# Altium integrated library ON Semi Schottky Diodes & Schottky Rectifiers.IntLib: 755 symbols (part 3 of 17)
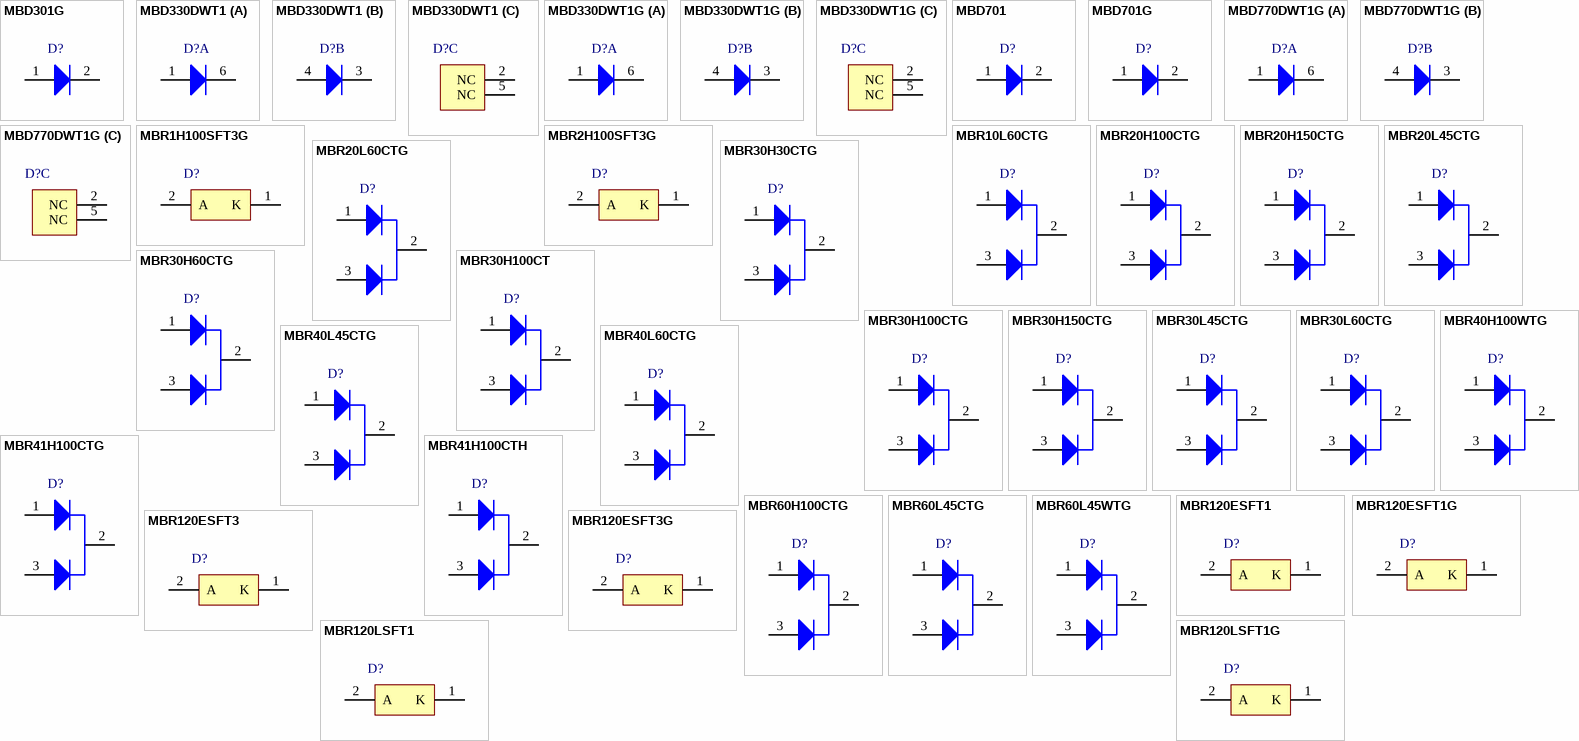
[diagram p21: symbols MBD301G to MBR120LSFT1G]

## MBR30L60CTG
designator D?
SWITCHMODE(TM) Power Rectifier, 60 V, 30 A, 3-Pin TO-220, Pb-Free, Tube; Manufacturer: On Semiconductor; PartNumber: MBR30L60CTG; Configuration: Common Cathode; IFSM Max (A): 240; DatasheetVersion: Rev. 0; PackageVersion: Rev. AF; PackageReference: TO-220-3-221A-09_AF; PackageDescription: 3-Pin Flange Mount, Vertical Straight Lead, Body 9.97 x 4.445 mm, Pitch 2.54 mm; Supplier 1: Digi-Key; Supplier Part Number 1: MBR30L60CTG-ND; Supplier 2: Newark; Supplier Part Number 2: 46P8076; Supplier 3: Mouser; Supplier Part Number 3: 863-MBR30L60CTG; Packing: Tube; RoHS: TRUE; Mounting Technology: Through Hole; ComponentLink1Description: Manufacturer URL; ComponentLink1URL: http://www.onsemi.com/; ComponentLink2Description: Datasheet; ComponentLink2URL: http://www.onsemi.cn/pub_link/Collateral/MBR30L60CT-D.PDF; ComponentLink3Description: Package Specification; ComponentLink3URL: http://www.onsemi.cn/pub_link/Collateral/MCR8S-D.PDF
footprint ONSC-TO-220-3-221A-09_AF (FM, 3-Leads, Body 10.3x4.85mm, Pitch 2.54mm)
pins: 1 A1, 2 K, 3 A2

## MBR40H100WTG
designator D?
SWITCHMODE(TM) Power Rectifier, 100 V, 40 A, 3-Pin TO-247, Pb-Free, Tube; Manufacturer: On Semiconductor; PartNumber: MBR40H100WTG; Configuration: Common Cathode; IFSM Max (A): 200; DatasheetVersion: Rev. 4; PackageVersion: Rev. F, 10/2011; PackageReference: TO-247-3-340L-02; PackageDescription: 3-Pin Flange Mount, Vertical Straight Lead, Body 16.005 x 5 mm, Pitch 5.45 mm; Supplier 1: Digi-Key; Supplier Part Number 1: MBR40H100WTGOS-ND; Supplier 2: Newark; Supplier Part Number 2: 83K8567; Supplier 3: Mouser; Supplier Part Number 3: 863-MBR40H100WTG; Packing: Tube; RoHS: TRUE; Mounting Technology: Through Hole; ComponentLink1Description: Manufacturer URL; ComponentLink1URL: http://www.onsemi.com/; ComponentLink2Description: Datasheet; ComponentLink2URL: http://www.onsemi.cn/pub_link/Collateral/MBR40H100WT-D.PDF; ComponentLink3Description: Package Specification; ComponentLink3URL: http://www.onsemi.cn/pub_link/Collateral/340L-02.PDF
footprint ONSC-TO-247-3-340L-02 (FM, 3-Leads, Body 16.3x5.3mm, Pitch 5.45mm)
pins: 1 A1, 2 K, 3 A2

## MBR40L45CTG
designator D?
SWITCHMODE(TM) Power Rectifier, 45 V, 40 A, 3-Pin TO-220, Pb-Free, Tube; Manufacturer: On Semiconductor; PartNumber: MBR40L45CTG; Configuration: Common Cathode; IFSM Max (A): 200; DatasheetVersion: Rev. 2; PackageVersion: Rev. AF; PackageReference: TO-220-3-221A-09_AF; PackageDescription: 3-Pin Flange Mount, Vertical Straight Lead, Body 9.97 x 4.445 mm, Pitch 2.54 mm; Supplier 1: Digi-Key; Supplier Part Number 1: MBR40L45CTGOS-ND; Supplier 2: Newark; Supplier Part Number 2: 50M2086; Supplier 3: Mouser; Supplier Part Number 3: 863-MBR40L45CTG; Packing: Tube; RoHS: TRUE; Mounting Technology: Through Hole; ComponentLink1Description: Manufacturer URL; ComponentLink1URL: http://www.onsemi.com/; ComponentLink2Description: Datasheet; ComponentLink2URL: http://www.onsemi.cn/pub_link/Collateral/MBR40L45CTG-D.PDF; ComponentLink3Description: Package Specification; ComponentLink3URL: http://www.onsemi.cn/pub_link/Collateral/MCR8S-D.PDF
footprint ONSC-TO-220-3-221A-09_AF (FM, 3-Leads, Body 10.3x4.85mm, Pitch 2.54mm)
pins: 1 A1, 2 K, 3 A2

## MBR40L60CTG
designator D?
SWITCHMODE(TM) Power Rectifier, 60 V, 40 A, 3-Pin TO-220, Pb-Free, Tube; Manufacturer: On Semiconductor; PartNumber: MBR40L60CTG; Configuration: Common Cathode; IFSM Max (A): 240; DatasheetVersion: Rev. 0; PackageVersion: Rev. AF; PackageReference: TO-220-3-221A-09_AF; PackageDescription: 3-Pin Flange Mount, Vertical Straight Lead, Body 9.97 x 4.445 mm, Pitch 2.54 mm; Supplier 1: Digi-Key; Supplier Part Number 1: MBR40L60CTGOS-ND; Supplier 2: Newark; Supplier Part Number 2: 46P8077; Supplier 3: Mouser; Supplier Part Number 3: 863-MBR40L60CTG; Packing: Tube; RoHS: TRUE; Mounting Technology: Through Hole; ComponentLink1Description: Manufacturer URL; ComponentLink1URL: http://www.onsemi.com/; ComponentLink2Description: Datasheet; ComponentLink2URL: http://www.onsemi.cn/pub_link/Collateral/MBR40L60CT-D.PDF; ComponentLink3Description: Package Specification; ComponentLink3URL: http://www.onsemi.cn/pub_link/Collateral/MCR8S-D.PDF
footprint ONSC-TO-220-3-221A-09_AF (FM, 3-Leads, Body 10.3x4.85mm, Pitch 2.54mm)
pins: 1 A1, 2 K, 3 A2

## MBR41H100CTG
designator D?
SWITCHMODE(TM) Power Rectifier, 100 V, 40 A, 3-Pin TO-220, Pb-Free, Tube; Manufacturer: On Semiconductor; PartNumber: MBR41H100CTG; Configuration: Common Cathode; IFSM Max (A): 350; DatasheetVersion: Rev. 8; PackageVersion: Rev. AG, 09/2011; PackageReference: TO-220-3-221A-09; PackageDescription: 3-Pin Flange Mount, Vertical Straight Lead, Body 9.97 x 4.445 mm, Pitch 2.54 mm; Supplier 1: Digi-Key; Supplier Part Number 1: MBR41H100CTGOS-ND; Supplier 2: Farnell; Supplier Part Number 2: 1431070; Supplier 3: Newark; Supplier Part Number 3: 58M8810; Supplier 4: Newark; Supplier Part Number 4: 61K0801; Supplier 5: Mouser; Supplier Part Number 5: 863-MBR41H100CTG; Packing: Tube; RoHS: TRUE; Mounting Technology: Through Hole; ComponentLink1Description: Manufacturer URL; ComponentLink1URL: http://www.onsemi.com/; ComponentLink2Description: Datasheet; ComponentLink2URL: http://www.onsemi.cn/pub_link/Collateral/MBR41H100CT-D.PDF; ComponentLink3Description: Package Specification; ComponentLink3URL: http://www.onsemi.com/pub_link/Collateral/221A-09.PDF
footprint ONSC-TO-220-3-221A-09 (FM, 3-Leads, Body 10.3x4.85mm, Pitch 2.54mm)
pins: 1 A1, 2 K, 3 A2

## MBR41H100CTH
designator D?
SWITCHMODE(TM) Power Rectifier, 100 V, 40 A, 3-Pin TO-220, Pb-Free, Tube; Manufacturer: On Semiconductor; PartNumber: MBR41H100CTH; Configuration: Common Cathode; IFSM Max (A): 350; DatasheetVersion: Rev. 8; PackageVersion: Rev. AG, 09/2011; PackageReference: TO-220-3-221A-09; PackageDescription: 3-Pin Flange Mount, Vertical Straight Lead, Body 9.97 x 4.445 mm, Pitch 2.54 mm; Supplier 1: Mouser; Supplier Part Number 1: N/A; Packing: Tube; RoHS: TRUE; Mounting Technology: Through Hole; ComponentLink1Description: Manufacturer URL; ComponentLink1URL: http://www.onsemi.com/; ComponentLink2Description: Datasheet; ComponentLink2URL: http://www.onsemi.cn/pub_link/Collateral/MBR41H100CT-D.PDF; ComponentLink3Description: Package Specification; ComponentLink3URL: http://www.onsemi.com/pub_link/Collateral/221A-09.PDF
footprint ONSC-TO-220-3-221A-09 (FM, 3-Leads, Body 10.3x4.85mm, Pitch 2.54mm)
pins: 1 A1, 2 K, 3 A2

## MBR60H100CTG
designator D?
SWITCHMODE(TM) Power Rectifier, 100 V, 60 A, 3-Pin TO-220, Pb-Free, Tube; Manufacturer: On Semiconductor; PartNumber: MBR60H100CTG; Configuration: Common Cathode; IFSM Max (A): 350; DatasheetVersion: Rev. 5; PackageVersion: Rev. AF; PackageReference: TO-220-3-221A-09_AF; PackageDescription: 3-Pin Flange Mount, Vertical Straight Lead, Body 9.97 x 4.445 mm, Pitch 2.54 mm; Supplier 1: Digi-Key; Supplier Part Number 1: MBR60H100CTGOS-ND; Supplier 2: Farnell; Supplier Part Number 2: 1431072; Supplier 3: Newark; Supplier Part Number 3: 61K0803; Supplier 4: Mouser; Supplier Part Number 4: 863-MBR60H100CTG; Packing: Tube; RoHS: TRUE; Mounting Technology: Through Hole; ComponentLink1Description: Manufacturer URL; ComponentLink1URL: http://www.onsemi.com/; ComponentLink2Description: Datasheet; ComponentLink2URL: http://www.onsemi.cn/pub_link/Collateral/MBR60H100CT-D.PDF; ComponentLink3Description: Package Specification; ComponentLink3URL: http://www.onsemi.cn/pub_link/Collateral/MCR8S-D.PDF
footprint ONSC-TO-220-3-221A-09_AF (FM, 3-Leads, Body 10.3x4.85mm, Pitch 2.54mm)
pins: 1 A1, 2 K, 3 A2

## MBR60L45CTG
designator D?
SWITCHMODE(TM) Power Rectifier, 45 V, 60 A, 3-Pin TO-220, Pb-Free, Tube; Manufacturer: On Semiconductor; PartNumber: MBR60L45CTG; Configuration: Common Cathode; IFSM Max (A): 200; DatasheetVersion: Rev. 2; PackageVersion: Rev. AF; PackageReference: TO-220-3-221A-09_AF; PackageDescription: 3-Pin Flange Mount, Vertical Straight Lead, Body 9.97 x 4.445 mm, Pitch 2.54 mm; Supplier 1: Digi-Key; Supplier Part Number 1: MBR60L45CTGOS-ND; Supplier 2: Newark; Supplier Part Number 2: 34M7324; Supplier 3: Mouser; Supplier Part Number 3: 863-MBR60L45CTG; Packing: Tube; RoHS: TRUE; Mounting Technology: Through Hole; ComponentLink1Description: Manufacturer URL; ComponentLink1URL: http://www.onsemi.com/; ComponentLink2Description: Datasheet; ComponentLink2URL: http://www.onsemi.cn/pub_link/Collateral/MBR60L45.PDF; ComponentLink3Description: Package Specification; ComponentLink3URL: http://www.onsemi.cn/pub_link/Collateral/MCR8S-D.PDF
footprint ONSC-TO-220-3-221A-09_AF (FM, 3-Leads, Body 10.3x4.85mm, Pitch 2.54mm)
pins: 1 A1, 2 K, 3 A2

## MBR60L45WTG
designator D?
SWITCHMODE(TM) Power Rectifier, 45 V, 60 A, 3-Pin TO-247, Pb-Free, Tube; Manufacturer: On Semiconductor; PartNumber: MBR60L45WTG; Configuration: Common Cathode; IFSM Max (A): 200; DatasheetVersion: Rev. 2; PackageVersion: Rev. F, 10/2011; PackageReference: TO-247-3-340L-02; PackageDescription: 3-Pin Flange Mount, Vertical Straight Lead, Body 16.005 x 5 mm, Pitch 5.45 mm; Supplier 1: Digi-Key; Supplier Part Number 1: MBR60L45WTG-ND; Supplier 2: Mouser; Supplier Part Number 2: 863-MBR60L45WTG; Packing: Tube; RoHS: TRUE; Mounting Technology: Through Hole; ComponentLink1Description: Manufacturer URL; ComponentLink1URL: http://www.onsemi.com/; ComponentLink2Description: Datasheet; ComponentLink2URL: http://www.onsemi.cn/pub_link/Collateral/MBR60L45.PDF; ComponentLink3Description: Package Specification; ComponentLink3URL: http://www.onsemi.cn/pub_link/Collateral/340L-02.PDF
footprint ONSC-TO-247-3-340L-02 (FM, 3-Leads, Body 16.3x5.3mm, Pitch 5.45mm)
pins: 1 A1, 2 K, 3 A2

## MBR120ESFT1
designator D?
Schottky Power Rectifier, 2-Pin SOD-123, Tape and Reel; Manufacturer: On Semiconductor; PartNumber: MBR120ESFT1; Configuration: Single; IFSM Max (A): 40; DatasheetVersion: Rev. 4; PackageVersion: Rev. D, 05/2013; PackageReference: SOD-123FL-2-498; PackageDescription: 2-Pin SOD, Body 1.65 x 2.7 mm; Supplier 1: Mouser; Supplier Part Number 1: 863-MBR120ESFT1; Packing: Tape and Reel; RoHS: FALSE; Mounting Technology: Surface Mount; ComponentLink1Description: Manufacturer URL; ComponentLink1URL: http://www.onsemi.com/; ComponentLink2Description: Datasheet; ComponentLink2URL: http://www.onsemi.cn/pub_link/Collateral/MBR120ESFT1-D.PDF; ComponentLink3Description: Package Specification; ComponentLink3URL: http://www.onsemi.com/pub_link/Collateral/498-01.PDF
footprint ONSC-SOD-123FL-2-498_V (SOD, 2-Leads, Body 2.7x1.65mm)
pins: 1 K, 2 A

## MBR120ESFT1G
designator D?
Schottky Power Rectifier, 2-Pin SOD-123, Pb-Free, Tape and Reel; Manufacturer: On Semiconductor; PartNumber: MBR120ESFT1G; Configuration: Single; IFSM Max (A): 40; DatasheetVersion: Rev. 4; PackageVersion: Rev. D, 05/2013; PackageReference: SOD-123FL-2-498; PackageDescription: 2-Pin SOD, Body 1.65 x 2.7 mm; Supplier 1: Farnell; Supplier Part Number 1: 1431041RL; Supplier 2: Farnell; Supplier Part Number 2: 1431041; Supplier 3: Newark; Supplier Part Number 3: 58M8776; Supplier 4: Newark; Supplier Part Number 4: 41K9997; Supplier 5: Mouser; Supplier Part Number 5: 863-MBR120ESFT1G; Packing: Tape and Reel; RoHS: TRUE; Mounting Technology: Surface Mount; ComponentLink1Description: Manufacturer URL; ComponentLink1URL: http://www.onsemi.com/; ComponentLink2Description: Datasheet; ComponentLink2URL: http://www.onsemi.cn/pub_link/Collateral/MBR120ESFT1-D.PDF; ComponentLink3Description: Package Specification; ComponentLink3URL: http://www.onsemi.com/pub_link/Collateral/498-01.PDF
footprint ONSC-SOD-123FL-2-498_V (SOD, 2-Leads, Body 2.7x1.65mm)
pins: 1 K, 2 A

## MBR120ESFT3
designator D?
Schottky Power Rectifier, 2-Pin SOD-123, Tape and Reel; Manufacturer: On Semiconductor; PartNumber: MBR120ESFT3; Configuration: Single; IFSM Max (A): 40; DatasheetVersion: Rev. 4; PackageVersion: Rev. D, 05/2013; PackageReference: SOD-123FL-2-498; PackageDescription: 2-Pin SOD, Body 1.65 x 2.7 mm; Supplier 1: Mouser; Supplier Part Number 1: 863-MBR120ESFT3; Packing: Tape and Reel; RoHS: FALSE; Mounting Technology: Surface Mount; ComponentLink1Description: Manufacturer URL; ComponentLink1URL: http://www.onsemi.com/; ComponentLink2Description: Datasheet; ComponentLink2URL: http://www.onsemi.cn/pub_link/Collateral/MBR120ESFT1-D.PDF; ComponentLink3Description: Package Specification; ComponentLink3URL: http://www.onsemi.com/pub_link/Collateral/498-01.PDF
footprint ONSC-SOD-123FL-2-498_V (SOD, 2-Leads, Body 2.7x1.65mm)
pins: 1 K, 2 A

## MBR120ESFT3G
designator D?
Schottky Power Rectifier, 2-Pin SOD-123, Pb-Free, Tape and Reel; Manufacturer: On Semiconductor; PartNumber: MBR120ESFT3G; Configuration: Single; IFSM Max (A): 40; DatasheetVersion: Rev. 4; PackageVersion: Rev. D, 05/2013; PackageReference: SOD-123FL-2-498; PackageDescription: 2-Pin SOD, Body 1.65 x 2.7 mm; Supplier 1: Digi-Key; Supplier Part Number 1: MBR120ESFT3G-ND; Supplier 2: Newark; Supplier Part Number 2: 41K9998; Supplier 3: Mouser; Supplier Part Number 3: 863-MBR120ESFT3G; Packing: Tape and Reel; RoHS: TRUE; Mounting Technology: Surface Mount; ComponentLink1Description: Manufacturer URL; ComponentLink1URL: http://www.onsemi.com/; ComponentLink2Description: Datasheet; ComponentLink2URL: http://www.onsemi.cn/pub_link/Collateral/MBR120ESFT1-D.PDF; ComponentLink3Description: Package Specification; ComponentLink3URL: http://www.onsemi.com/pub_link/Collateral/498-01.PDF
footprint ONSC-SOD-123FL-2-498_V (SOD, 2-Leads, Body 2.7x1.65mm)
pins: 1 K, 2 A

## MBR120LSFT1
designator D?
Schottky Power Rectifier, 2-Pin SOD-123, Tape and Reel; Manufacturer: On Semiconductor; PartNumber: MBR120LSFT1; Configuration: Single; IFSM Max (A): 50; DatasheetVersion: Rev. 3; PackageVersion: Rev. A; PackageReference: SOD-123FL-2-498-01; PackageDescription: 2-Pin SOD, Body 1.65 x 2.7 mm; Supplier 1: Digi-Key; Supplier Part Number 1: MBR120LSFT1OS-ND; Supplier 2: Mouser; Supplier Part Number 2: 863-MBR120LSFT1; Packing: Tape and Reel; RoHS: FALSE; Mounting Technology: Surface Mount; ComponentLink1Description: Manufacturer URL; ComponentLink1URL: http://www.onsemi.com/; ComponentLink2Description: Datasheet; ComponentLink2URL: http://www.onsemi.cn/pub_link/Collateral/MBR120LSFT1-D.PDF; ComponentLink3Description: Package Specification; ComponentLink3URL: http://www.onsemi.cn/pub_link/Collateral/MBR120VLSFT1-D.PDF
footprint ONSC-SOD-123FL-2-498-01_V (SOD, 2-Leads, Body 2.7x1.65mm)
pins: 1 K, 2 A

## MBR120LSFT1G
designator D?
Schottky Power Rectifier, 2-Pin SOD-123, Pb-Free, Tape and Reel; Manufacturer: On Semiconductor; PartNumber: MBR120LSFT1G; Configuration: Single; IFSM Max (A): 50; DatasheetVersion: Rev. 3; PackageVersion: Rev. A; PackageReference: SOD-123FL-2-498-01; PackageDescription: 2-Pin SOD, Body 1.65 x 2.7 mm; Supplier 1: Digi-Key; Supplier Part Number 1: MBR120LSFT1GOSTR-ND; Supplier 2: Digi-Key; Supplier Part Number 2: MBR120LSFT1GOSCT-ND; Supplier 3: Digi-Key; Supplier Part Number 3: MBR120LSFT1GOSDKR-ND; Supplier 4: Farnell; Supplier Part Number 4: 1431042; Supplier 5: Farnell; Supplier Part Number 5: 1431042RL; Supplier 6: Farnell; Supplier Part Number 6: 2369344; Supplier 7: Newark; Supplier Part Number 7: 10N9423; Supplier 8: Newark; Supplier Part Number 8: 41K9999; Supplier 9: Mouser; Supplier Part Number 9: 863-MBR120LSFT1G; Packing: Tape and Reel; RoHS: TRUE; Mounting Technology: Surface Mount; ComponentLink1Description: Manufacturer URL; ComponentLink1URL: http://www.onsemi.com/; ComponentLink2Description: Datasheet; ComponentLink2URL: http://www.onsemi.cn/pub_link/Collateral/MBR120LSFT1-D.PDF; ComponentLink3Description: Package Specification; ComponentLink3URL: http://www.onsemi.cn/pub_link/Collateral/MBR120VLSFT1-D.PDF
footprint ONSC-SOD-123FL-2-498-01_V (SOD, 2-Leads, Body 2.7x1.65mm)
pins: 1 K, 2 A

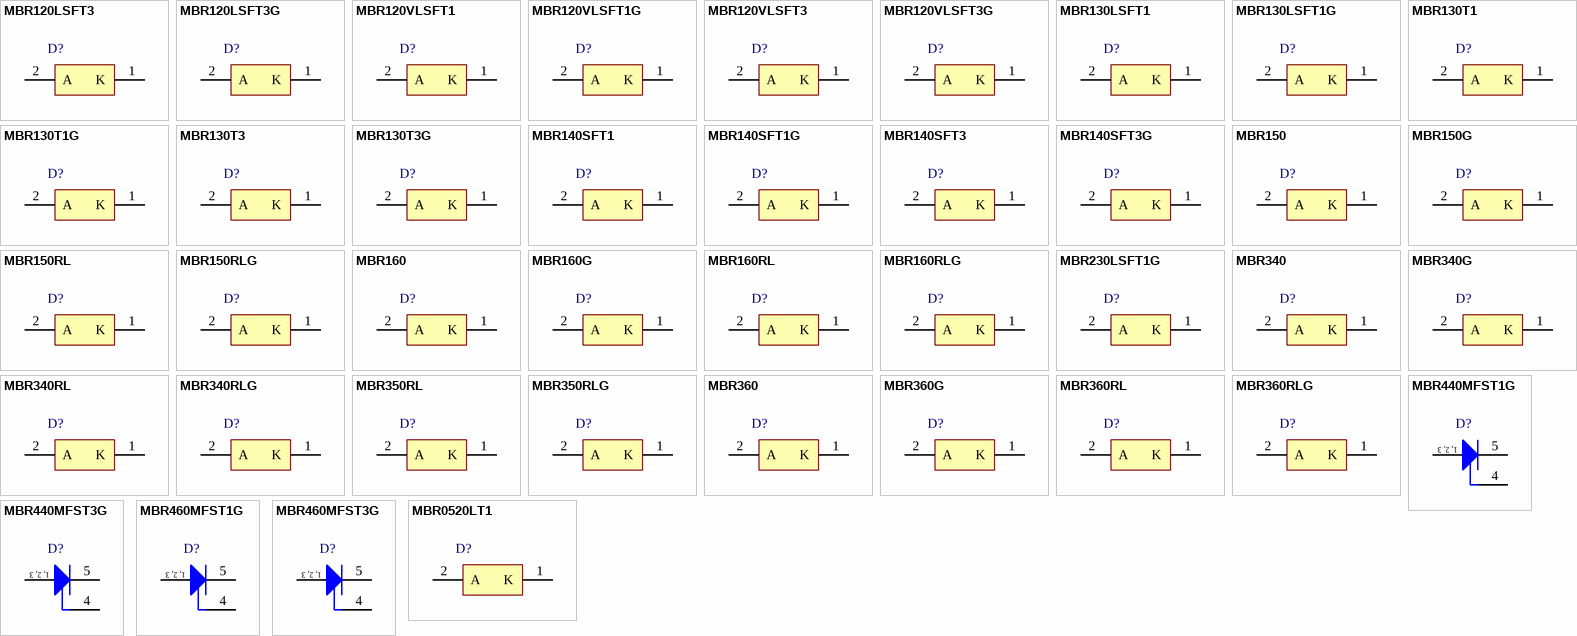
[diagram p3: symbols MBR120LSFT3 to MBR0520LT1]

## MBR120LSFT3
designator D?
Schottky Power Rectifier, 2-Pin SOD-123, Tape and Reel; Manufacturer: On Semiconductor; PartNumber: MBR120LSFT3; Configuration: Single; IFSM Max (A): 50; DatasheetVersion: Rev. 3; PackageVersion: Rev. A; PackageReference: SOD-123FL-2-498-01; PackageDescription: 2-Pin SOD, Body 1.65 x 2.7 mm; Supplier 1: Digi-Key; Supplier Part Number 1: MBR120LSFT3-ND; Supplier 2: Mouser; Supplier Part Number 2: 863-MBR120LSFT3; Packing: Tape and Reel; RoHS: FALSE; Mounting Technology: Surface Mount; ComponentLink1Description: Manufacturer URL; ComponentLink1URL: http://www.onsemi.com/; ComponentLink2Description: Datasheet; ComponentLink2URL: http://www.onsemi.cn/pub_link/Collateral/MBR120LSFT1-D.PDF; ComponentLink3Description: Package Specification; ComponentLink3URL: http://www.onsemi.cn/pub_link/Collateral/MBR120VLSFT1-D.PDF
footprint ONSC-SOD-123FL-2-498-01_V (SOD, 2-Leads, Body 2.7x1.65mm)
pins: 1 K, 2 A

## MBR120LSFT3G
designator D?
Schottky Power Rectifier, 2-Pin SOD-123, Pb-Free, Tape and Reel; Manufacturer: On Semiconductor; PartNumber: MBR120LSFT3G; Configuration: Single; IFSM Max (A): 50; DatasheetVersion: Rev. 3; PackageVersion: Rev. A; PackageReference: SOD-123FL-2-498-01; PackageDescription: 2-Pin SOD, Body 1.65 x 2.7 mm; Supplier 1: Digi-Key; Supplier Part Number 1: MBR120LSFT3G-ND; Supplier 2: Mouser; Supplier Part Number 2: 863-MBR120LSFT3G; Packing: Tape and Reel; RoHS: TRUE; Mounting Technology: Surface Mount; ComponentLink1Description: Manufacturer URL; ComponentLink1URL: http://www.onsemi.com/; ComponentLink2Description: Datasheet; ComponentLink2URL: http://www.onsemi.cn/pub_link/Collateral/MBR120LSFT1-D.PDF; ComponentLink3Description: Package Specification; ComponentLink3URL: http://www.onsemi.cn/pub_link/Collateral/MBR120VLSFT1-D.PDF
footprint ONSC-SOD-123FL-2-498-01_V (SOD, 2-Leads, Body 2.7x1.65mm)
pins: 1 K, 2 A

## MBR120VLSFT1
designator D?
Schottky Power Rectifier, 2-Pin SOD-123, Tape and Reel; Manufacturer: On Semiconductor; PartNumber: MBR120VLSFT1; Configuration: Single; IFSM Max (A): 45; DatasheetVersion: Rev. 2; PackageVersion: Rev. A; PackageReference: SOD-123FL-2-498-01; PackageDescription: 2-Pin SOD, Body 1.65 x 2.7 mm; Supplier 1: Digi-Key; Supplier Part Number 1: MBR120VLSFT1OSTR-ND; Supplier 2: Digi-Key; Supplier Part Number 2: MBR120VLSFT1OSCT-ND; Supplier 3: Mouser; Supplier Part Number 3: 863-MBR120VLSFT1; Packing: Tape and Reel; RoHS: FALSE; Mounting Technology: Surface Mount; ComponentLink1Description: Manufacturer URL; ComponentLink1URL: http://www.onsemi.com/; ComponentLink2Description: Datasheet; ComponentLink2URL: http://www.onsemi.cn/pub_link/Collateral/MBR120VLSFT1-D.PDF; ComponentLink3Description: Package Specification; ComponentLink3URL: http://www.onsemi.cn/pub_link/Collateral/MBR120VLSFT1-D.PDF
footprint ONSC-SOD-123FL-2-498-01_V (SOD, 2-Leads, Body 2.7x1.65mm)
pins: 1 K, 2 A

## MBR120VLSFT1G
designator D?
Schottky Power Rectifier, 2-Pin SOD-123, Pb-Free, Tape and Reel; Manufacturer: On Semiconductor; PartNumber: MBR120VLSFT1G; Configuration: Single; IFSM Max (A): 45; DatasheetVersion: Rev. 2; PackageVersion: Rev. A; PackageReference: SOD-123FL-2-498-01; PackageDescription: 2-Pin SOD, Body 1.65 x 2.7 mm; Supplier 1: Digi-Key; Supplier Part Number 1: MBR120VLSFT1GOSTR-ND; Supplier 2: Digi-Key; Supplier Part Number 2: MBR120VLSFT1GOSCT-ND; Supplier 3: Digi-Key; Supplier Part Number 3: MBR120VLSFT1GOSDKR-ND; Supplier 4: Farnell; Supplier Part Number 4: 1431044RL; Supplier 5: Farnell; Supplier Part Number 5: 1431044; Supplier 6: Newark; Supplier Part Number 6: 10N9424; Supplier 7: Newark; Supplier Part Number 7: 40K2436; Supplier 8: Newark; Supplier Part Number 8: 58M8778; Supplier 9: Mouser; Supplier Part Number 9: 863-MBR120VLSFT1G; Packing: Tape and Reel; RoHS: TRUE; Mounting Technology: Surface Mount; ComponentLink1Description: Manufacturer URL; ComponentLink1URL: http://www.onsemi.com/; ComponentLink2Description: Datasheet; ComponentLink2URL: http://www.onsemi.cn/pub_link/Collateral/MBR120VLSFT1-D.PDF; ComponentLink3Description: Package Specification; ComponentLink3URL: http://www.onsemi.cn/pub_link/Collateral/MBR120VLSFT1-D.PDF
footprint ONSC-SOD-123FL-2-498-01_V (SOD, 2-Leads, Body 2.7x1.65mm)
pins: 1 K, 2 A

## MBR120VLSFT3
designator D?
Schottky Power Rectifier, 2-Pin SOD-123, Tape and Reel; Manufacturer: On Semiconductor; PartNumber: MBR120VLSFT3; Configuration: Single; IFSM Max (A): 45; DatasheetVersion: Rev. 2; PackageVersion: Rev. A; PackageReference: SOD-123FL-2-498-01; PackageDescription: 2-Pin SOD, Body 1.65 x 2.7 mm; Supplier 1: Digi-Key; Supplier Part Number 1: MBR120VLSFT3-ND; Supplier 2: Mouser; Supplier Part Number 2: 863-MBR120VLSFT3; Packing: Tape and Reel; RoHS: FALSE; Mounting Technology: Surface Mount; ComponentLink1Description: Manufacturer URL; ComponentLink1URL: http://www.onsemi.com/; ComponentLink2Description: Datasheet; ComponentLink2URL: http://www.onsemi.cn/pub_link/Collateral/MBR120VLSFT1-D.PDF; ComponentLink3Description: Package Specification; ComponentLink3URL: http://www.onsemi.cn/pub_link/Collateral/MBR120VLSFT1-D.PDF
footprint ONSC-SOD-123FL-2-498-01_V (SOD, 2-Leads, Body 2.7x1.65mm)
pins: 1 K, 2 A

## MBR120VLSFT3G
designator D?
Schottky Power Rectifier, 2-Pin SOD-123, Pb-Free, Tape and Reel; Manufacturer: On Semiconductor; PartNumber: MBR120VLSFT3G; Configuration: Single; IFSM Max (A): 45; DatasheetVersion: Rev. 2; PackageVersion: Rev. A; PackageReference: SOD-123FL-2-498-01; PackageDescription: 2-Pin SOD, Body 1.65 x 2.7 mm; Supplier 1: Digi-Key; Supplier Part Number 1: MBR120VLSFT3GOSTR-ND; Supplier 2: Digi-Key; Supplier Part Number 2: MBR120VLSFT3GOSCT-ND; Supplier 3: Digi-Key; Supplier Part Number 3: MBR120VLSFT3GOSDKR-ND; Supplier 4: Newark; Supplier Part Number 4: 42K0002; Supplier 5: Mouser; Supplier Part Number 5: 863-MBR120VLSFT3G; Packing: Tape and Reel; RoHS: TRUE; Mounting Technology: Surface Mount; ComponentLink1Description: Manufacturer URL; ComponentLink1URL: http://www.onsemi.com/; ComponentLink2Description: Datasheet; ComponentLink2URL: http://www.onsemi.cn/pub_link/Collateral/MBR120VLSFT1-D.PDF; ComponentLink3Description: Package Specification; ComponentLink3URL: http://www.onsemi.cn/pub_link/Collateral/MBR120VLSFT1-D.PDF
footprint ONSC-SOD-123FL-2-498-01_V (SOD, 2-Leads, Body 2.7x1.65mm)
pins: 1 K, 2 A

## MBR130LSFT1
designator D?
Schottky Power Rectifier, 2-Pin SOD-123, Tape and Reel; Manufacturer: On Semiconductor; PartNumber: MBR130LSFT1; Configuration: Single; IFSM Max (A): 40; DatasheetVersion: Rev. 3; PackageVersion: Rev. D, 05/2013; PackageReference: SOD-123FL-2-498; PackageDescription: 2-Pin SMD, Body 2.7 x 1.65 mm, Pitch 2.95 mm; Supplier 1: Digi-Key; Supplier Part Number 1: MBR130LSFT1-ND; Supplier 2: Mouser; Supplier Part Number 2: 863-MBR130LSFT1; Packing: Tape and Reel; RoHS: FALSE; Mounting Technology: Surface Mount; ComponentLink1Description: Manufacturer URL; ComponentLink1URL: http://www.onsemi.com/; ComponentLink2Description: Datasheet; ComponentLink2URL: http://www.onsemi.cn/pub_link/Collateral/MBR130LSFT1-D.PDF; ComponentLink3Description: Package Specification; ComponentLink3URL: http://www.onsemi.com/pub_link/Collateral/498-01.PDF
footprint ONSC-SOD-123FL-2-498_V (SOD, 2-Leads, Body 2.7x1.65mm)
pins: 1 K, 2 A

## MBR130LSFT1G
designator D?
Schottky Power Rectifier, 2-Pin SOD-123, Pb-Free, Tape and Reel; Manufacturer: On Semiconductor; PartNumber: MBR130LSFT1G; Configuration: Single; IFSM Max (A): 40; DatasheetVersion: Rev. 3; PackageVersion: Rev. D, 05/2013; PackageReference: SOD-123FL-2-498; PackageDescription: 2-Pin SOD, Body 1.65 x 2.7 mm; Supplier 1: Digi-Key; Supplier Part Number 1: MBR130LSFT1GOSTR-ND; Supplier 2: Digi-Key; Supplier Part Number 2: MBR130LSFT1GOSCT-ND; Supplier 3: Digi-Key; Supplier Part Number 3: MBR130LSFT1GOSDKR-ND; Supplier 4: Farnell; Supplier Part Number 4: 1889324; Supplier 5: Newark; Supplier Part Number 5: 10N9425; Supplier 6: Newark; Supplier Part Number 6: 42K0003; Supplier 7: Mouser; Supplier Part Number 7: 863-MBR130LSFT1G; Packing: Tape and Reel; RoHS: TRUE; Mounting Technology: Surface Mount; ComponentLink1Description: Manufacturer URL; ComponentLink1URL: http://www.onsemi.com/; ComponentLink2Description: Datasheet; ComponentLink2URL: http://www.onsemi.cn/pub_link/Collateral/MBR130LSFT1-D.PDF; ComponentLink3Description: Package Specification; ComponentLink3URL: http://www.onsemi.com/pub_link/Collateral/498-01.PDF
footprint ONSC-SOD-123FL-2-498_V (SOD, 2-Leads, Body 2.7x1.65mm)
pins: 1 K, 2 A

## MBR130T1
designator D?
Schottky Power Rectifier, 2-Pin SOD-123, Tape and Reel; Manufacturer: On Semiconductor; PartNumber: MBR130T1; Configuration: Single; IFSM Max (A): 5.5; DatasheetVersion: Rev. 4; PackageVersion: Rev. G, 10/2009; PackageReference: SOD-123-2-425-04; PackageDescription: 2-Pin SOD, Body 1.6 x 2.69 mm; Supplier 1: Digi-Key; Supplier Part Number 1: MBR130T1OSCT-ND; Packing: Tape and Reel; RoHS: FALSE; Mounting Technology: Surface Mount; ComponentLink1Description: Manufacturer URL; ComponentLink1URL: http://www.onsemi.com/; ComponentLink2Description: Datasheet; ComponentLink2URL: http://www.onsemi.cn/pub_link/Collateral/MBR130T1-D.PDF; ComponentLink3Description: Package Specification; ComponentLink3URL: http://www.onsemi.com/pub_link/Collateral/425-04.PDF
footprint ONSC-SOD-123-2-425-04_V (SOD, 2-Leads, Body 2.69x1.6mm)
pins: 1 K, 2 A

## MBR130T1G
designator D?
Schottky Power Rectifier, 2-Pin SOD-123, Pb-Free, Tape and Reel; Manufacturer: On Semiconductor; PartNumber: MBR130T1G; Configuration: Single; IFSM Max (A): 5.5; DatasheetVersion: Rev. 4; PackageVersion: Rev. G, 10/2009; PackageReference: SOD-123-2-425-04; PackageDescription: 2-Pin SOD, Body 1.6 x 2.69 mm; Supplier 1: Digi-Key; Supplier Part Number 1: MBR130T1GOSTR-ND; Supplier 2: Digi-Key; Supplier Part Number 2: MBR130T1GOSCT-ND; Supplier 3: Digi-Key; Supplier Part Number 3: MBR130T1GOSDKR-ND; Supplier 4: Farnell; Supplier Part Number 4: 1431045; Supplier 5: Farnell; Supplier Part Number 5: 1431045RL; Supplier 6: Newark; Supplier Part Number 6: 98H0601; Supplier 7: Newark; Supplier Part Number 7: 84K8740; Supplier 8: Mouser; Supplier Part Number 8: 863-MBR130T1G; Packing: Tape and Reel; RoHS: TRUE; Mounting Technology: Surface Mount; ComponentLink1Description: Manufacturer URL; ComponentLink1URL: http://www.onsemi.com/; ComponentLink2Description: Datasheet; ComponentLink2URL: http://www.onsemi.cn/pub_link/Collateral/MBR130T1-D.PDF; ComponentLink3Description: Package Specification; ComponentLink3URL: http://www.onsemi.com/pub_link/Collateral/425-04.PDF
footprint ONSC-SOD-123-2-425-04_V (SOD, 2-Leads, Body 2.69x1.6mm)
pins: 1 K, 2 A

## MBR130T3
designator D?
Schottky Power Rectifier, 2-Pin SOD-123, Tape and Reel; Manufacturer: On Semiconductor; PartNumber: MBR130T3; Configuration: Single; IFSM Max (A): 5.5; DatasheetVersion: Rev. 4; PackageVersion: Rev. G, 10/2009; PackageReference: SOD-123-2-425-04; PackageDescription: 2-Pin SOD, Body 1.6 x 2.69 mm; Supplier 1: Digi-Key; Supplier Part Number 1: MBR130T3-ND; Packing: Tape and Reel; RoHS: FALSE; Mounting Technology: Surface Mount; ComponentLink1Description: Manufacturer URL; ComponentLink1URL: http://www.onsemi.com/; ComponentLink2Description: Datasheet; ComponentLink2URL: http://www.onsemi.cn/pub_link/Collateral/MBR130T1-D.PDF; ComponentLink3Description: Package Specification; ComponentLink3URL: http://www.onsemi.com/pub_link/Collateral/425-04.PDF
footprint ONSC-SOD-123-2-425-04_V (SOD, 2-Leads, Body 2.69x1.6mm)
pins: 1 K, 2 A

## MBR130T3G
designator D?
Schottky Power Rectifier, 2-Pin SOD-123, Pb-Free, Tape and Reel; Manufacturer: On Semiconductor; PartNumber: MBR130T3G; Configuration: Single; IFSM Max (A): 5.5; DatasheetVersion: Rev. 4; PackageVersion: Rev. G, 10/2009; PackageReference: SOD-123-2-425-04; PackageDescription: 2-Pin SOD, Body 1.6 x 2.69 mm; Supplier 1: Digi-Key; Supplier Part Number 1: MBR130T3GOSTR-ND; Supplier 2: Digi-Key; Supplier Part Number 2: MBR130T3GOSCT-ND; Supplier 3: Digi-Key; Supplier Part Number 3: MBR130T3GOSDKR-ND; Supplier 4: Farnell; Supplier Part Number 4: 1611423; Supplier 5: Newark; Supplier Part Number 5: 42K0004; Supplier 6: Mouser; Supplier Part Number 6: 863-MBR130T3G; Packing: Tape and Reel; RoHS: TRUE; Mounting Technology: Surface Mount; ComponentLink1Description: Manufacturer URL; ComponentLink1URL: http://www.onsemi.com/; ComponentLink2Description: Datasheet; ComponentLink2URL: http://www.onsemi.cn/pub_link/Collateral/MBR130T1-D.PDF; ComponentLink3Description: Package Specification; ComponentLink3URL: http://www.onsemi.com/pub_link/Collateral/425-04.PDF
footprint ONSC-SOD-123-2-425-04_V (SOD, 2-Leads, Body 2.69x1.6mm)
pins: 1 K, 2 A

## MBR140SFT1
designator D?
Schottky Power Rectifier, 2-Pin SOD-123, Tape and Reel; Manufacturer: On Semiconductor; PartNumber: MBR140SFT1; Configuration: Single; IFSM Max (A): 30; DatasheetVersion: Rev. 5; PackageVersion: Rev. A; PackageReference: SOD-123FL-2-498-01; PackageDescription: 2-Pin SOD, Body 1.65 x 2.7 mm; Supplier 1: Digi-Key; Supplier Part Number 1: MBR140SFT1OSTR-ND; Supplier 2: Digi-Key; Supplier Part Number 2: MBR140SFT1OSCT-ND; Supplier 3: Mouser; Supplier Part Number 3: 863-MBR140SFT1; Packing: Tape and Reel; RoHS: FALSE; Mounting Technology: Surface Mount; ComponentLink1Description: Manufacturer URL; ComponentLink1URL: http://www.onsemi.com/; ComponentLink2Description: Datasheet; ComponentLink2URL: http://www.onsemi.cn/pub_link/Collateral/MBR140SFT1-D.PDF; ComponentLink3Description: Package Specification; ComponentLink3URL: http://www.onsemi.cn/pub_link/Collateral/MBR120VLSFT1-D.PDF
footprint ONSC-SOD-123FL-2-498-01_V (SOD, 2-Leads, Body 2.7x1.65mm)
pins: 1 K, 2 A

## MBR140SFT1G
designator D?
Schottky Power Rectifier, 2-Pin SOD-123, Pb-Free, Tape and Reel; Manufacturer: On Semiconductor; PartNumber: MBR140SFT1G; Configuration: Single; IFSM Max (A): 30; DatasheetVersion: Rev. 5; PackageVersion: Rev. A; PackageReference: SOD-123FL-2-498-01; PackageDescription: 2-Pin SOD, Body 1.65 x 2.7 mm; Supplier 1: Digi-Key; Supplier Part Number 1: MBR140SFT1GOSTR-ND; Supplier 2: Digi-Key; Supplier Part Number 2: MBR140SFT1GOSCT-ND; Supplier 3: Digi-Key; Supplier Part Number 3: MBR140SFT1GOSDKR-ND; Supplier 4: Farnell; Supplier Part Number 4: 2317682; Supplier 5: Farnell; Supplier Part Number 5: 1431046RL; Supplier 6: Farnell; Supplier Part Number 6: 1431046; Supplier 7: Newark; Supplier Part Number 7: 42K0005; Supplier 8: Newark; Supplier Part Number 8: 85W2812; Supplier 9: Mouser; Supplier Part Number 9: 863-MBR140SFT1G; Packing: Tape and Reel; RoHS: TRUE; Mounting Technology: Surface Mount; ComponentLink1Description: Manufacturer URL; ComponentLink1URL: http://www.onsemi.com/; ComponentLink2Description: Datasheet; ComponentLink2URL: http://www.onsemi.cn/pub_link/Collateral/MBR140SFT1-D.PDF; ComponentLink3Description: Package Specification; ComponentLink3URL: http://www.onsemi.cn/pub_link/Collateral/MBR120VLSFT1-D.PDF
footprint ONSC-SOD-123FL-2-498-01_V (SOD, 2-Leads, Body 2.7x1.65mm)
pins: 1 K, 2 A

## MBR140SFT3
designator D?
Schottky Power Rectifier, 2-Pin SOD-123, Tape and Reel; Manufacturer: On Semiconductor; PartNumber: MBR140SFT3; Configuration: Single; IFSM Max (A): 30; DatasheetVersion: Rev. 5; PackageVersion: Rev. A; PackageReference: SOD-123FL-2-498-01; PackageDescription: 2-Pin SOD, Body 1.65 x 2.7 mm; Supplier 1: Digi-Key; Supplier Part Number 1: MBR140SFT3-ND; Supplier 2: Mouser; Supplier Part Number 2: 863-MBR140SFT3; Packing: Tape and Reel; RoHS: FALSE; Mounting Technology: Surface Mount; ComponentLink1Description: Manufacturer URL; ComponentLink1URL: http://www.onsemi.com/; ComponentLink2Description: Datasheet; ComponentLink2URL: http://www.onsemi.cn/pub_link/Collateral/MBR140SFT1-D.PDF; ComponentLink3Description: Package Specification; ComponentLink3URL: http://www.onsemi.cn/pub_link/Collateral/MBR120VLSFT1-D.PDF
footprint ONSC-SOD-123FL-2-498-01_V (SOD, 2-Leads, Body 2.7x1.65mm)
pins: 1 K, 2 A

## MBR140SFT3G
designator D?
Schottky Power Rectifier, 2-Pin SOD-123, Pb-Free, Tape and Reel; Manufacturer: On Semiconductor; PartNumber: MBR140SFT3G; Configuration: Single; IFSM Max (A): 30; DatasheetVersion: Rev. 5; PackageVersion: Rev. A; PackageReference: SOD-123FL-2-498-01; PackageDescription: 2-Pin SOD, Body 1.65 x 2.7 mm; Supplier 1: Digi-Key; Supplier Part Number 1: MBR140SFT3G-ND; Supplier 2: Newark; Supplier Part Number 2: 42K0006; Supplier 3: Mouser; Supplier Part Number 3: 863-MBR140SFT3G; Packing: Tape and Reel; RoHS: TRUE; Mounting Technology: Surface Mount; ComponentLink1Description: Manufacturer URL; ComponentLink1URL: http://www.onsemi.com/; ComponentLink2Description: Datasheet; ComponentLink2URL: http://www.onsemi.cn/pub_link/Collateral/MBR140SFT1-D.PDF; ComponentLink3Description: Package Specification; ComponentLink3URL: http://www.onsemi.cn/pub_link/Collateral/MBR120VLSFT1-D.PDF
footprint ONSC-SOD-123FL-2-498-01_V (SOD, 2-Leads, Body 2.7x1.65mm)
pins: 1 K, 2 A

## MBR150
designator D?
Rectifier, 2-Pin Axial_Lead, Pb-Free, Bulk Bag; Manufacturer: On Semiconductor; PartNumber: MBR150; Configuration: Single; IFSM Max (A): 25; DatasheetVersion: Rev. 8; PackageVersion: Rev. U, 02/2005; PackageReference: AXIAL_LEAD-2-59-10; PackageDescription: 2-Pin, Axial Lead, Diameter 2.35 mm; Supplier 1: Digi-Key; Supplier Part Number 1: MBR150OS-ND; Packing: Bulk Bag; RoHS: TRUE; Mounting Technology: Through Hole; ComponentLink1Description: Manufacturer URL; ComponentLink1URL: http://www.onsemi.com/; ComponentLink2Description: Datasheet; ComponentLink2URL: http://www.onsemi.cn/pub_link/Collateral/MBR150-D.PDF; ComponentLink3Description: Package Specification; ComponentLink3URL: http://www.onsemi.cn/pub_link/Collateral/59-10.PDF
footprint ONSC-AXIAL_LEAD-2-59-10_P (AXIAL, 2-Leads, Diameter 2.35mm)
pins: 1 K, 2 A

## MBR150G
designator D?
Rectifier, 2-Pin Axial_Lead, Pb-Free, Bulk Bag; Manufacturer: On Semiconductor; PartNumber: MBR150G; Configuration: Single; IFSM Max (A): 25; DatasheetVersion: Rev. 8; PackageVersion: Rev. U, 02/2005; PackageReference: AXIAL_LEAD-2-59-10; PackageDescription: 2-Pin, Axial Lead, Diameter 2.35 mm; Supplier 1: Digi-Key; Supplier Part Number 1: MBR150GOS-ND; Supplier 2: Farnell; Supplier Part Number 2: 1651124; Supplier 3: Newark; Supplier Part Number 3: 42K0007; Supplier 4: Mouser; Supplier Part Number 4: 863-MBR150G; Packing: Bulk Bag; RoHS: TRUE; Mounting Technology: Through Hole; ComponentLink1Description: Manufacturer URL; ComponentLink1URL: http://www.onsemi.com/; ComponentLink2Description: Datasheet; ComponentLink2URL: http://www.onsemi.cn/pub_link/Collateral/MBR150-D.PDF; ComponentLink3Description: Package Specification; ComponentLink3URL: http://www.onsemi.cn/pub_link/Collateral/59-10.PDF
footprint ONSC-AXIAL_LEAD-2-59-10_P (AXIAL, 2-Leads, Diameter 2.35mm)
pins: 1 K, 2 A

## MBR150RL
designator D?
Rectifier, 2-Pin Axial_Lead, Pb-Free, Tape and Reel; Manufacturer: On Semiconductor; PartNumber: MBR150RL; Configuration: Single; IFSM Max (A): 25; DatasheetVersion: Rev. 8; PackageVersion: Rev. U, 02/2005; PackageReference: AXIAL_LEAD-2-59-10; PackageDescription: 2-Pin, Axial Lead, Diameter 2.35 mm; Supplier 1: Digi-Key; Supplier Part Number 1: MBR150RLOSTR-ND; Supplier 2: Digi-Key; Supplier Part Number 2: MBR150RLOSCT-ND; Supplier 3: Mouser; Supplier Part Number 3: 863-MBR150RL; Packing: Tape and Reel; RoHS: TRUE; Mounting Technology: Through Hole; ComponentLink1Description: Manufacturer URL; ComponentLink1URL: http://www.onsemi.com/; ComponentLink2Description: Datasheet; ComponentLink2URL: http://www.onsemi.cn/pub_link/Collateral/MBR150-D.PDF; ComponentLink3Description: Package Specification; ComponentLink3URL: http://www.onsemi.cn/pub_link/Collateral/59-10.PDF
footprint ONSC-AXIAL_LEAD-2-59-10_P (AXIAL, 2-Leads, Diameter 2.35mm)
pins: 1 K, 2 A

## MBR150RLG
designator D?
Rectifier, 2-Pin Axial_Lead, Pb-Free, Tape and Reel; Manufacturer: On Semiconductor; PartNumber: MBR150RLG; Configuration: Single; IFSM Max (A): 25; DatasheetVersion: Rev. 8; PackageVersion: Rev. U, 02/2005; PackageReference: AXIAL_LEAD-2-59-10; PackageDescription: 2-Pin, Axial Lead, Diameter 2.35 mm; Supplier 1: Digi-Key; Supplier Part Number 1: MBR150RLGOSTR-ND; Supplier 2: Digi-Key; Supplier Part Number 2: MBR150RLGOSCT-ND; Supplier 3: Farnell; Supplier Part Number 3: 1431047; Supplier 4: Newark; Supplier Part Number 4: 42K0008; Supplier 5: Newark; Supplier Part Number 5: 10N9426; Supplier 6: Mouser; Supplier Part Number 6: 863-MBR150RLG; Packing: Tape and Reel; RoHS: TRUE; Mounting Technology: Through Hole; ComponentLink1Description: Manufacturer URL; ComponentLink1URL: http://www.onsemi.com/; ComponentLink2Description: Datasheet; ComponentLink2URL: http://www.onsemi.cn/pub_link/Collateral/MBR150-D.PDF; ComponentLink3Description: Package Specification; ComponentLink3URL: http://www.onsemi.cn/pub_link/Collateral/59-10.PDF
footprint ONSC-AXIAL_LEAD-2-59-10_P (AXIAL, 2-Leads, Diameter 2.35mm)
pins: 1 K, 2 A

## MBR160
designator D?
Rectifier, 2-Pin Axial_Lead, Pb-Free, Bulk Bag; Manufacturer: On Semiconductor; PartNumber: MBR160; Configuration: Single; IFSM Max (A): 25; DatasheetVersion: Rev. 8; PackageVersion: Rev. U, 02/2005; PackageReference: AXIAL_LEAD-2-59-10; PackageDescription: 2-Pin, Axial Lead, Diameter 2.35 mm; Supplier 1: Digi-Key; Supplier Part Number 1: MBR160OS-ND; Packing: Bulk Bag; RoHS: TRUE; Mounting Technology: Through Hole; ComponentLink1Description: Manufacturer URL; ComponentLink1URL: http://www.onsemi.com/; ComponentLink2Description: Datasheet; ComponentLink2URL: http://www.onsemi.cn/pub_link/Collateral/MBR150-D.PDF; ComponentLink3Description: Package Specification; ComponentLink3URL: http://www.onsemi.cn/pub_link/Collateral/59-10.PDF
footprint ONSC-AXIAL_LEAD-2-59-10_P (AXIAL, 2-Leads, Diameter 2.35mm)
pins: 1 K, 2 A

## MBR160G
designator D?
Rectifier, 2-Pin Axial_Lead, Pb-Free, Bulk Bag; Manufacturer: On Semiconductor; PartNumber: MBR160G; Configuration: Single; IFSM Max (A): 25; DatasheetVersion: Rev. 8; PackageVersion: Rev. U, 02/2005; PackageReference: AXIAL_LEAD-2-59-10; PackageDescription: 2-Pin, Axial Lead, Diameter 2.35 mm; Supplier 1: Digi-Key; Supplier Part Number 1: MBR160GOS-ND; Supplier 2: Farnell; Supplier Part Number 2: 1126226; Supplier 3: Newark; Supplier Part Number 3: 42K0009; Supplier 4: Mouser; Supplier Part Number 4: 863-MBR160G; Packing: Bulk Bag; RoHS: TRUE; Mounting Technology: Through Hole; ComponentLink1Description: Manufacturer URL; ComponentLink1URL: http://www.onsemi.com/; ComponentLink2Description: Datasheet; ComponentLink2URL: http://www.onsemi.cn/pub_link/Collateral/MBR150-D.PDF; ComponentLink3Description: Package Specification; ComponentLink3URL: http://www.onsemi.cn/pub_link/Collateral/59-10.PDF
footprint ONSC-AXIAL_LEAD-2-59-10_P (AXIAL, 2-Leads, Diameter 2.35mm)
pins: 1 K, 2 A

## MBR160RL
designator D?
Rectifier, 2-Pin Axial_Lead, Pb-Free, Tape and Reel; Manufacturer: On Semiconductor; PartNumber: MBR160RL; Configuration: Single; IFSM Max (A): 25; DatasheetVersion: Rev. 8; PackageVersion: Rev. U, 02/2005; PackageReference: AXIAL_LEAD-2-59-10; PackageDescription: 2-Pin, Axial Lead, Diameter 2.35 mm; Supplier 1: Digi-Key; Supplier Part Number 1: MBR160RLOSTR-ND; Supplier 2: Digi-Key; Supplier Part Number 2: MBR160RLOSCT-ND; Supplier 3: Mouser; Supplier Part Number 3: 863-MBR160RL; Packing: Tape and Reel; RoHS: TRUE; Mounting Technology: Through Hole; ComponentLink1Description: Manufacturer URL; ComponentLink1URL: http://www.onsemi.com/; ComponentLink2Description: Datasheet; ComponentLink2URL: http://www.onsemi.cn/pub_link/Collateral/MBR150-D.PDF; ComponentLink3Description: Package Specification; ComponentLink3URL: http://www.onsemi.cn/pub_link/Collateral/59-10.PDF
footprint ONSC-AXIAL_LEAD-2-59-10_P (AXIAL, 2-Leads, Diameter 2.35mm)
pins: 1 K, 2 A

## MBR160RLG
designator D?
Rectifier, 2-Pin Axial_Lead, Pb-Free, Tape and Reel; Manufacturer: On Semiconductor; PartNumber: MBR160RLG; Configuration: Single; IFSM Max (A): 25; DatasheetVersion: Rev. 8; PackageVersion: Rev. U, 02/2005; PackageReference: AXIAL_LEAD-2-59-10; PackageDescription: 2-Pin, Axial Lead, Diameter 2.35 mm; Supplier 1: Digi-Key; Supplier Part Number 1: MBR160RLGOSTR-ND; Supplier 2: Digi-Key; Supplier Part Number 2: MBR160RLGOSCT-ND; Supplier 3: Farnell; Supplier Part Number 3: 9556761; Supplier 4: Farnell; Supplier Part Number 4: 2369355; Supplier 5: Newark; Supplier Part Number 5: 10N9427; Supplier 6: Newark; Supplier Part Number 6: 42K0010; Supplier 7: Mouser; Supplier Part Number 7: 863-MBR160RLG; Packing: Tape and Reel; RoHS: TRUE; Mounting Technology: Through Hole; ComponentLink1Description: Manufacturer URL; ComponentLink1URL: http://www.onsemi.com/; ComponentLink2Description: Datasheet; ComponentLink2URL: http://www.onsemi.cn/pub_link/Collateral/MBR150-D.PDF; ComponentLink3Description: Package Specification; ComponentLink3URL: http://www.onsemi.cn/pub_link/Collateral/59-10.PDF
footprint ONSC-AXIAL_LEAD-2-59-10_P (AXIAL, 2-Leads, Diameter 2.35mm)
pins: 1 K, 2 A

## MBR230LSFT1G
designator D?
Schottky Power Rectifier, 2-Pin SOD-123, Pb-Free, Tape and Reel; Manufacturer: On Semiconductor; PartNumber: MBR230LSFT1G; Configuration: Single; IFSM Max (A): 40; DatasheetVersion: Rev. 0; PackageVersion: Rev. A; PackageReference: SOD-123FL-2-498-01; PackageDescription: 2-Pin SOD, Body 1.65 x 2.7 mm; Supplier 1: Digi-Key; Supplier Part Number 1: MBR230LSFT1GOSTR-ND; Supplier 2: Digi-Key; Supplier Part Number 2: MBR230LSFT1GOSCT-ND; Supplier 3: Digi-Key; Supplier Part Number 3: MBR230LSFT1GOSDKR-ND; Supplier 4: Farnell; Supplier Part Number 4: 2317422; Supplier 5: Farnell; Supplier Part Number 5: 1889325; Supplier 6: Newark; Supplier Part Number 6: 50M2085; Supplier 7: Newark; Supplier Part Number 7: 10N9428; Supplier 8: Mouser; Supplier Part Number 8: 863-MBR230LSFT1G; Packing: Tape and Reel; RoHS: TRUE; Mounting Technology: Surface Mount; ComponentLink1Description: Manufacturer URL; ComponentLink1URL: http://www.onsemi.com/; ComponentLink2Description: Datasheet; ComponentLink2URL: http://www.onsemi.cn/pub_link/Collateral/MBR230LSFT1G.PDF; ComponentLink3Description: Package Specification; ComponentLink3URL: http://www.onsemi.cn/pub_link/Collateral/MBR120VLSFT1-D.PDF
footprint ONSC-SOD-123FL-2-498-01_V (SOD, 2-Leads, Body 2.7x1.65mm)
pins: 1 K, 2 A

## MBR340
designator D?
Rectifier, 2-Pin Axial_Lead, Bulk Bag; Manufacturer: On Semiconductor; PartNumber: MBR340; Configuration: Single; IFSM Max (A): 80; DatasheetVersion: Rev. 7; PackageVersion: Rev. G, 06/2000; PackageReference: AXIAL_LEAD-2-267-05; PackageDescription: 2-Pin, Axial Lead, Diameter 5.05 mm; Supplier 1: Digi-Key; Supplier Part Number 1: MBR340OS-ND; Supplier 2: Mouser; Supplier Part Number 2: 863-MBR340; Packing: Bulk Bag; RoHS: FALSE; Mounting Technology: Through Hole; ComponentLink1Description: Manufacturer URL; ComponentLink1URL: http://www.onsemi.com/; ComponentLink2Description: Datasheet; ComponentLink2URL: http://www.onsemi.cn/pub_link/Collateral/MBR340-D.PDF; ComponentLink3Description: Package Specification; ComponentLink3URL: http://www.onsemi.com/pub_link/Collateral/267-05.PDF
footprint ONSC-AXIAL_LEAD-2-267-05_V (AXIAL, 2-Leads, Diameter 5.05mm)
pins: 1 K, 2 A

## MBR340G
designator D?
Rectifier, 2-Pin Axial_Lead, Pb-Free, Bulk Bag; Manufacturer: On Semiconductor; PartNumber: MBR340G; Configuration: Single; IFSM Max (A): 80; DatasheetVersion: Rev. 7; PackageVersion: Rev. G, 06/2000; PackageReference: AXIAL_LEAD-2-267-05; PackageDescription: 2-Pin, Axial Lead, Diameter 5.05 mm; Supplier 1: Digi-Key; Supplier Part Number 1: MBR340GOS-ND; Supplier 2: Farnell; Supplier Part Number 2: 1459059; Supplier 3: Newark; Supplier Part Number 3: 42K0014; Supplier 4: Newark; Supplier Part Number 4: 58M8802; Supplier 5: Mouser; Supplier Part Number 5: 863-MBR340G; Packing: Bulk Bag; RoHS: TRUE; Mounting Technology: Through Hole; ComponentLink1Description: Manufacturer URL; ComponentLink1URL: http://www.onsemi.com/; ComponentLink2Description: Datasheet; ComponentLink2URL: http://www.onsemi.cn/pub_link/Collateral/MBR340-D.PDF; ComponentLink3Description: Package Specification; ComponentLink3URL: http://www.onsemi.com/pub_link/Collateral/267-05.PDF
footprint ONSC-AXIAL_LEAD-2-267-05_V (AXIAL, 2-Leads, Diameter 5.05mm)
pins: 1 K, 2 A

## MBR340RL
designator D?
Rectifier, 2-Pin Axial_Lead, Tape and Reel; Manufacturer: On Semiconductor; PartNumber: MBR340RL; Configuration: Single; IFSM Max (A): 80; DatasheetVersion: Rev. 7; PackageVersion: Rev. G, 06/2000; PackageReference: AXIAL_LEAD-2-267-05; PackageDescription: 2-Pin, Axial Lead, Diameter 5.05 mm; Supplier 1: Digi-Key; Supplier Part Number 1: MBR340RL-ND; Supplier 2: Mouser; Supplier Part Number 2: 863-MBR340RL; Packing: Tape and Reel; RoHS: FALSE; Mounting Technology: Through Hole; ComponentLink1Description: Manufacturer URL; ComponentLink1URL: http://www.onsemi.com/; ComponentLink2Description: Datasheet; ComponentLink2URL: http://www.onsemi.cn/pub_link/Collateral/MBR340-D.PDF; ComponentLink3Description: Package Specification; ComponentLink3URL: http://www.onsemi.com/pub_link/Collateral/267-05.PDF
footprint ONSC-AXIAL_LEAD-2-267-05_V (AXIAL, 2-Leads, Diameter 5.05mm)
pins: 1 K, 2 A

## MBR340RLG
designator D?
Rectifier, 2-Pin Axial_Lead, Pb-Free, Tape and Reel; Manufacturer: On Semiconductor; PartNumber: MBR340RLG; Configuration: Single; IFSM Max (A): 80; DatasheetVersion: Rev. 7; PackageVersion: Rev. G, 06/2000; PackageReference: AXIAL_LEAD-2-267-05; PackageDescription: 2-Pin, Axial Lead, Diameter 5.05 mm; Supplier 1: Digi-Key; Supplier Part Number 1: MBR340RLGOSTR-ND; Supplier 2: Digi-Key; Supplier Part Number 2: MBR340RLGOSCT-ND; Supplier 3: Farnell; Supplier Part Number 3: 9556770; Supplier 4: Newark; Supplier Part Number 4: 38K4514; Supplier 5: Newark; Supplier Part Number 5: 09R9424; Supplier 6: Mouser; Supplier Part Number 6: 863-MBR340RLG; Packing: Tape and Reel; RoHS: TRUE; Mounting Technology: Through Hole; ComponentLink1Description: Manufacturer URL; ComponentLink1URL: http://www.onsemi.com/; ComponentLink2Description: Datasheet; ComponentLink2URL: http://www.onsemi.cn/pub_link/Collateral/MBR340-D.PDF; ComponentLink3Description: Package Specification; ComponentLink3URL: http://www.onsemi.com/pub_link/Collateral/267-05.PDF
footprint ONSC-AXIAL_LEAD-2-267-05_V (AXIAL, 2-Leads, Diameter 5.05mm)
pins: 1 K, 2 A

## MBR350RL
designator D?
Rectifier, 2-Pin Axial_Lead, Tape and Reel; Manufacturer: On Semiconductor; PartNumber: MBR350RL; Configuration: Single; IFSM Max (A): 80; DatasheetVersion: Rev. 6; PackageVersion: Rev. G, 06/2000; PackageReference: AXIAL_LEAD-2-267-05; PackageDescription: 2-Pin, Axial Lead, Diameter 5.05 mm; Supplier 1: Digi-Key; Supplier Part Number 1: MBR350RLOSTR-ND; Supplier 2: Mouser; Supplier Part Number 2: 863-MBR350RL; Packing: Tape and Reel; RoHS: FALSE; Mounting Technology: Through Hole; ComponentLink1Description: Manufacturer URL; ComponentLink1URL: http://www.onsemi.com/; ComponentLink2Description: Datasheet; ComponentLink2URL: http://www.onsemi.cn/pub_link/Collateral/MBR350-D.PDF; ComponentLink3Description: Package Specification; ComponentLink3URL: http://www.onsemi.com/pub_link/Collateral/267-05.PDF
footprint ONSC-AXIAL_LEAD-2-267-05_V (AXIAL, 2-Leads, Diameter 5.05mm)
pins: 1 K, 2 A

## MBR350RLG
designator D?
Rectifier, 2-Pin Axial_Lead, Pb-Free, Tape and Reel; Manufacturer: On Semiconductor; PartNumber: MBR350RLG; Configuration: Single; IFSM Max (A): 80; DatasheetVersion: Rev. 6; PackageVersion: Rev. G, 06/2000; PackageReference: AXIAL_LEAD-2-267-05; PackageDescription: 2-Pin, Axial Lead, Diameter 5.05 mm; Supplier 1: Digi-Key; Supplier Part Number 1: MBR350RLGOSTR-ND; Supplier 2: Digi-Key; Supplier Part Number 2: MBR350RLGOSCT-ND; Supplier 3: Farnell; Supplier Part Number 3: 1431062; Supplier 4: Newark; Supplier Part Number 4: 10N9430; Supplier 5: Mouser; Supplier Part Number 5: 863-MBR350RLG; Packing: Tape and Reel; RoHS: TRUE; Mounting Technology: Through Hole; ComponentLink1Description: Manufacturer URL; ComponentLink1URL: http://www.onsemi.com/; ComponentLink2Description: Datasheet; ComponentLink2URL: http://www.onsemi.cn/pub_link/Collateral/MBR350-D.PDF; ComponentLink3Description: Package Specification; ComponentLink3URL: http://www.onsemi.com/pub_link/Collateral/267-05.PDF
footprint ONSC-AXIAL_LEAD-2-267-05_V (AXIAL, 2-Leads, Diameter 5.05mm)
pins: 1 K, 2 A

## MBR360
designator D?
Rectifier, 2-Pin Axial_Lead, Bulk Bag; Manufacturer: On Semiconductor; PartNumber: MBR360; Configuration: Single; IFSM Max (A): 80; DatasheetVersion: Rev. 6; PackageVersion: Rev. G, 06/2000; PackageReference: AXIAL_LEAD-2-267-05; PackageDescription: 2-Pin, Axial Lead, Diameter 5.05 mm; Supplier 1: Digi-Key; Supplier Part Number 1: MBR360OS-ND; Packing: Bulk Bag; RoHS: FALSE; Mounting Technology: Through Hole; ComponentLink1Description: Manufacturer URL; ComponentLink1URL: http://www.onsemi.com/; ComponentLink2Description: Datasheet; ComponentLink2URL: http://www.onsemi.cn/pub_link/Collateral/MBR350-D.PDF; ComponentLink3Description: Package Specification; ComponentLink3URL: http://www.onsemi.com/pub_link/Collateral/267-05.PDF
footprint ONSC-AXIAL_LEAD-2-267-05_V (AXIAL, 2-Leads, Diameter 5.05mm)
pins: 1 K, 2 A